# Altium schematic symbol library 96BoardsComputeSoM.SchLib: 2 symbols
Pins are listed as number, name and electrical type; pins without a type are passive.

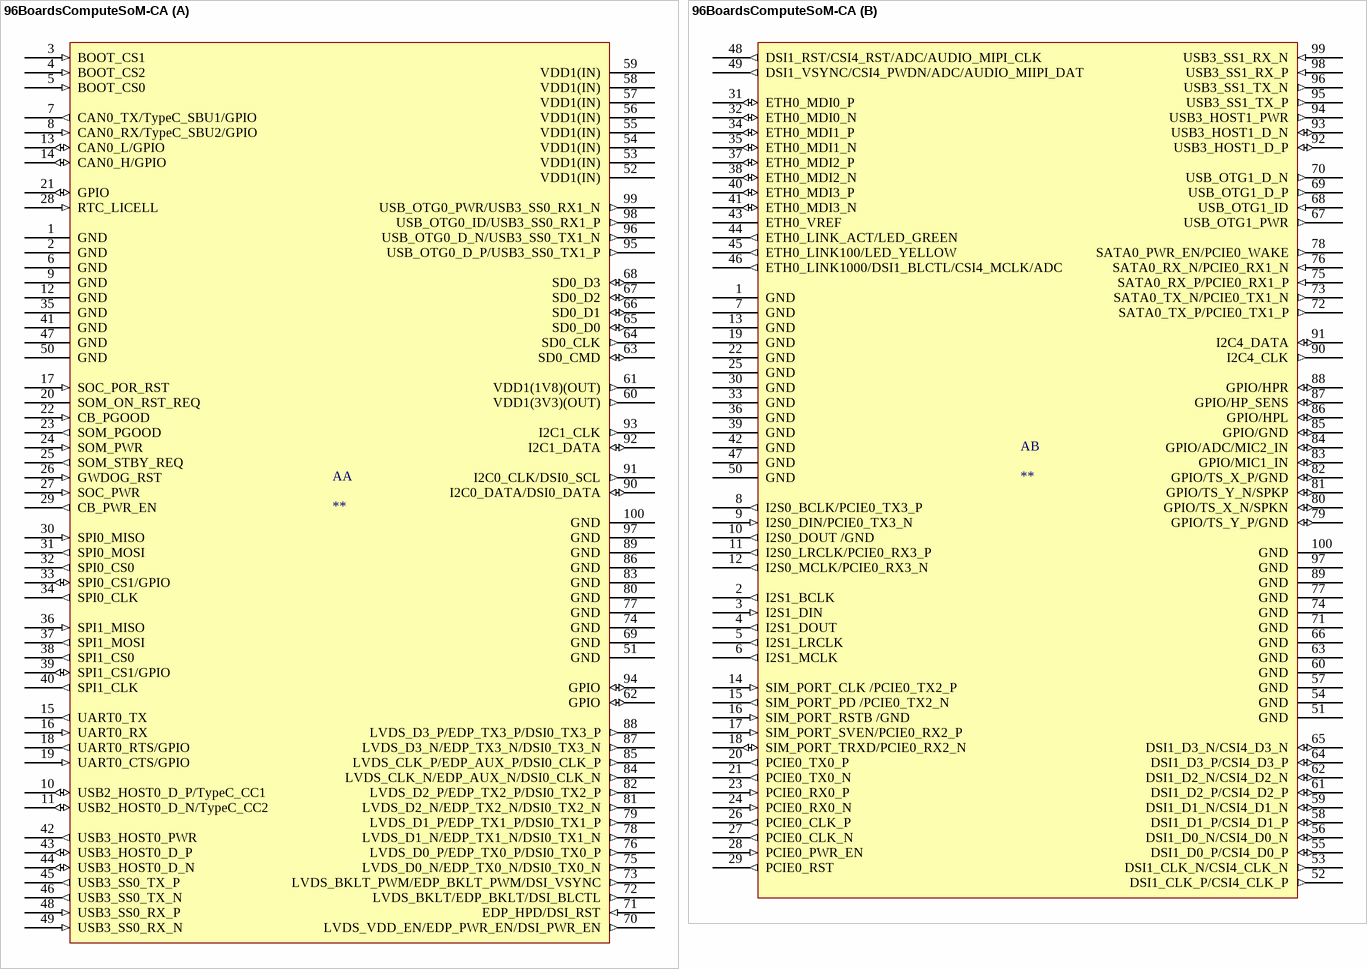
[diagram p0: symbol 96BoardsComputeSoM-CA]

## 96BoardsComputeSoM-CA
designator A, comment **
Linaro 96Boards Compute Module SOM v1.0 4-Connector A-Variant as found specified in http://static.linaro.org/assets/specifications/96BoardsComputeSoMSpecificationV1.0.pdf
part A pins: 1 GND (power), 2 GND (power), 3 BOOT_CS1 (in), 4 BOOT_CS2 (in), 5 BOOT_CS0 (in), 6 GND (power), 7 CAN0_TX/TypeC_SBU1/GPIO (out), 8 CAN0_RX/TypeC_SBU2/GPIO (in), 9 GND (power), 10 USB2_HOST0_D_P/TypeC_CC1 (io), 11 USB2_HOST0_D_N/TypeC_CC2 (io), 12 GND (power), 13 CAN0_L/GPIO (io), 14 CAN0_H/GPIO (io), 15 UART0_TX (out), 16 UART0_RX (in), 17 SOC_POR_RST (in), 18 UART0_RTS/GPIO (out), 19 UART0_CTS/GPIO (in), 20 SOM_ON_RST_REQ, 21 GPIO (io), 22 CB_PGOOD (in), 23 SOM_PGOOD (out), 24 SOM_PWR (in), 25 SOM_STBY_REQ (out), 26 GWDOG_RST (in), 27 SOC_PWR (in), 28 RTC_LICELL (in), 29 CB_PWR_EN (out), 30 SPI0_MISO (in), 31 SPI0_MOSI (out), 32 SPI0_CS0 (out), 33 SPI0_CS1/GPIO (io), 34 SPI0_CLK (out), 35 GND (power), 36 SPI1_MISO (in), 37 SPI1_MOSI (out), 38 SPI1_CS0 (out), 39 SPI1_CS1/GPIO (io), 40 SPI1_CLK (out), 41 GND (power), 42 USB3_HOST0_PWR (out), 43 USB3_HOST0_D_P (io), 44 USB3_HOST0_D_N (io), 45 USB3_SS0_TX_P (out), 46 USB3_SS0_TX_N (out), 47 GND (power), 48 USB3_SS0_RX_P (in), 49 USB3_SS0_RX_N (in), 50 GND (power), 51 GND (power), 52 VDD1(IN) (power), 53 VDD1(IN) (power), 54 VDD1(IN) (power), 55 VDD1(IN) (power), 56 VDD1(IN) (power), 57 VDD1(IN) (power), 58 VDD1(IN) (power), 59 VDD1(IN) (power), 60 VDD1(3V3)(OUT) (out), 61 VDD1(1V8)(OUT) (out), 62 GPIO (io), 63 SD0_CMD (io), 64 SD0_CLK (out), 65 SD0_D0 (io), 66 SD0_D1 (io), 67 SD0_D2 (io), 68 SD0_D3 (io), 69 GND (power), 70 LVDS_VDD_EN/EDP_PWR_EN/DSI_PWR_EN (out), 71 EDP_HPD/DSI_RST (in), 72 LVDS_BKLT/EDP_BKLT/DSI_BLCTL (out), 73 LVDS_BKLT_PWM/EDP_BKLT_PWM/DSI_VSYNC (out), 74 GND (power), 75 LVDS_D0_N/EDP_TX0_N/DSI0_TX0_N (out), 76 LVDS_D0_P/EDP_TX0_P/DSI0_TX0_P (out), 77 GND (power), 78 LVDS_D1_N/EDP_TX1_N/DSI0_TX1_N (out), 79 LVDS_D1_P/EDP_TX1_P/DSI0_TX1_P (out), 80 GND (power), 81 LVDS_D2_N/EDP_TX2_N/DSI0_TX2_N (out), 82 LVDS_D2_P/EDP_TX2_P/DSI0_TX2_P (out), 83 GND (power), 84 LVDS_CLK_N/EDP_AUX_N/DSI0_CLK_N (out), 85 LVDS_CLK_P/EDP_AUX_P/DSI0_CLK_P (out), 86 GND (power), 87 LVDS_D3_N/EDP_TX3_N/DSI0_TX3_N (out), 88 LVDS_D3_P/EDP_TX3_P/DSI0_TX3_P (out), 89 GND (power), 90 I2C0_DATA/DSI0_DATA (io), 91 I2C0_CLK/DSI0_SCL (out), 92 I2C1_DATA (io), 93 I2C1_CLK (out), 94 GPIO (io), 95 USB_OTG0_D_P/USB3_SS0_TX1_P (out), 96 USB_OTG0_D_N/USB3_SS0_TX1_N (out), 97 GND (power), 98 USB_OTG0_ID/USB3_SS0_RX1_P (out), 99 USB_OTG0_PWR/USB3_SS0_RX1_N (out), 100 GND (power)
part B pins: 1 GND (power), 2 I2S1_BCLK (out), 3 I2S1_DIN (in), 4 I2S1_DOUT (out), 5 I2S1_LRCLK (out), 6 I2S1_MCLK (out), 7 GND (power), 8 I2S0_BCLK/PCIE0_TX3_P (out), 9 I2S0_DIN/PCIE0_TX3_N (in), 10 I2S0_DOUT /GND (out), 11 I2S0_LRCLK/PCIE0_RX3_P (out), 12 I2S0_MCLK/PCIE0_RX3_N (out), 13 GND (power), 14 SIM_PORT_CLK /PCIE0_TX2_P (in), 15 SIM_PORT_PD /PCIE0_TX2_N (out), 16 SIM_PORT_RSTB /GND (in), 17 SIM_PORT_SVEN/PCIE0_RX2_P (in), 18 SIM_PORT_TRXD/PCIE0_RX2_N (io), 19 GND (power), 20 PCIE0_TX0_P (out), 21 PCIE0_TX0_N (out), 22 GND (power), 23 PCIE0_RX0_P (in), 24 PCIE0_RX0_N (in), 25 GND (power), 26 PCIE0_CLK_P (out), 27 PCIE0_CLK_N (out), 28 PCIE0_PWR_EN (in), 29 PCIE0_RST (out), 30 GND (power), 31 ETH0_MDI0_P (io), 32 ETH0_MDI0_N (io), 33 GND (power), 34 ETH0_MDI1_P (io), 35 ETH0_MDI1_N (io), 36 GND (power), 37 ETH0_MDI2_P (io), 38 ETH0_MDI2_N (io), 39 GND (power), 40 ETH0_MDI3_P (io), 41 ETH0_MDI3_N (io), 42 GND (power), 43 ETH0_VREF, 44 ETH0_LINK_ACT/LED_GREEN (out), 45 ETH0_LINK100/LED_YELLOW (out), 46 ETH0_LINK1000/DSI1_BLCTL/CSI4_MCLK/ADC (out), 47 GND (power), 48 DSI1_RST/CSI4_RST/ADC/AUDIO_MIPI_CLK (out), 49 DSI1_VSYNC/CSI4_PWDN/ADC/AUDIO_MIIPI_DAT (out), 50 GND (power), 51 GND (power), 52 DSI1_CLK_P/CSI4_CLK_P (out), 53 DSI1_CLK_N/CSI4_CLK_N (out), 54 GND (power), 55 DSI1_D0_P/CSI4_D0_P (io), 56 DSI1_D0_N/CSI4_D0_N (io), 57 GND (power), 58 DSI1_D1_P/CSI4_D1_P (io), 59 DSI1_D1_N/CSI4_D1_N (io), 60 GND (power), 61 DSI1_D2_P/CSI4_D2_P (io), 62 DSI1_D2_N/CSI4_D2_N (io), 63 GND (power), 64 DSI1_D3_P/CSI4_D3_P (io), 65 DSI1_D3_N/CSI4_D3_N (io), 66 GND (power), 67 USB_OTG1_PWR (out), 68 USB_OTG1_ID (in), 69 USB_OTG1_D_P (out), 70 USB_OTG1_D_N (out), 71 GND (power), 72 SATA0_TX_P/PCIE0_TX1_P (out), 73 SATA0_TX_N/PCIE0_TX1_N (out), 74 GND (power), 75 SATA0_RX_P/PCIE0_RX1_P (in), 76 SATA0_RX_N/PCIE0_RX1_N (in), 77 GND (power), 78 SATA0_PWR_EN/PCIE0_WAKE (out), 79 GPIO/TS_Y_P/GND (io), 80 GPIO/TS_X_N/SPKN (io), 81 GPIO/TS_Y_N/SPKP (io), 82 GPIO/TS_X_P/GND (io), 83 GPIO/MIC1_IN (io), 84 GPIO/ADC/MIC2_IN (io), 85 GPIO/GND (io), 86 GPIO/HPL (io), 87 GPIO/HP_SENS (io), 88 GPIO/HPR (io), 89 GND (power), 90 I2C4_CLK (out), 91 I2C4_DATA (io), 92 USB3_HOST1_D_P (io), 93 USB3_HOST1_D_N (io), 94 USB3_HOST1_PWR (out), 95 USB3_SS1_TX_P (out), 96 USB3_SS1_TX_N (out), 97 GND (power), 98 USB3_SS1_RX_P (in), 99 USB3_SS1_RX_N (in), 100 GND (power)

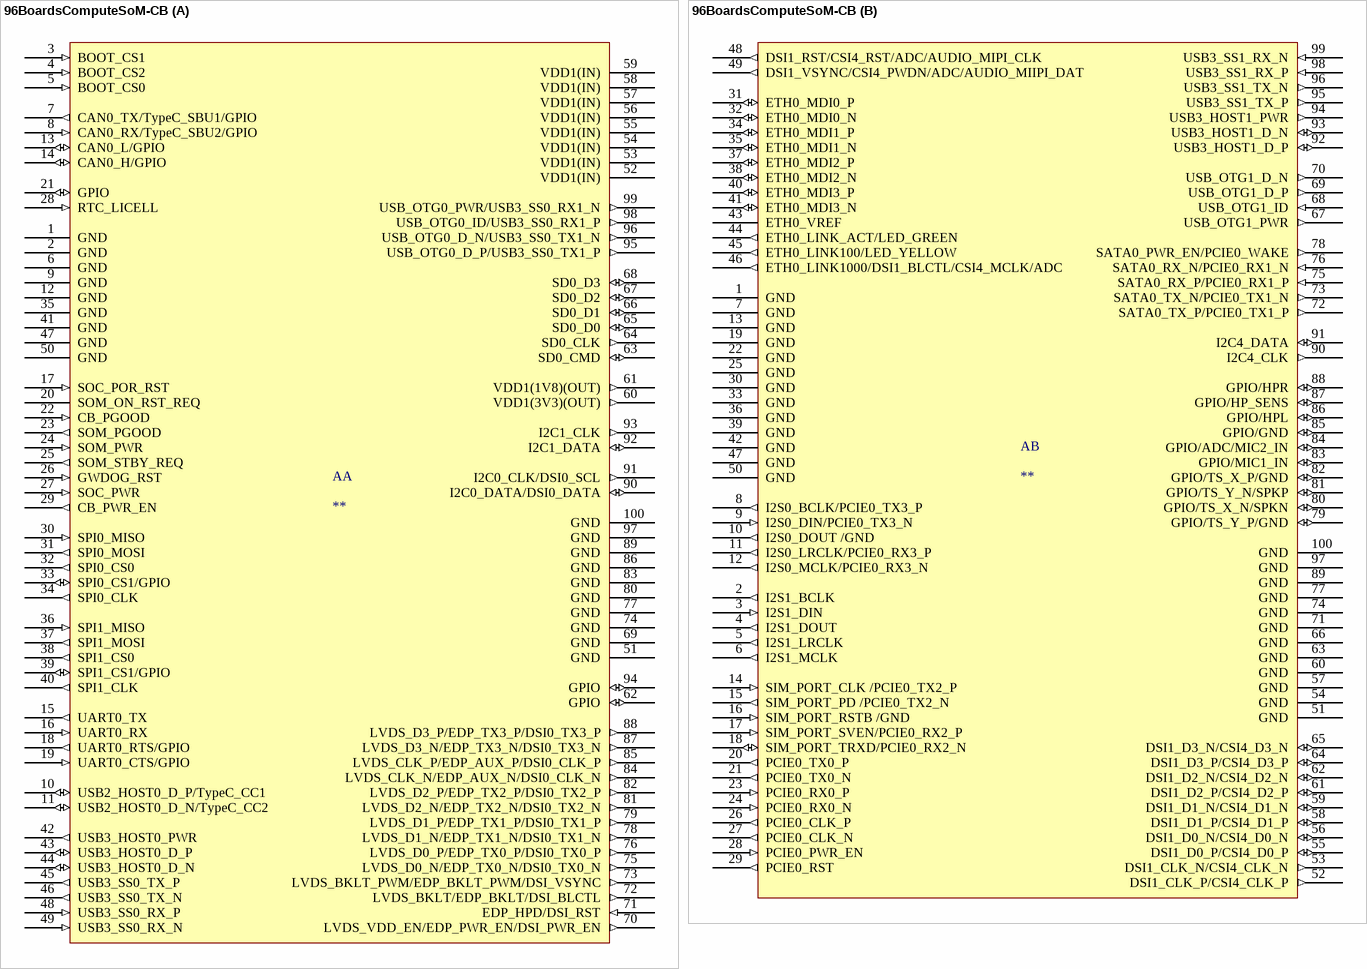
[diagram p1: symbol 96BoardsComputeSoM-CB]

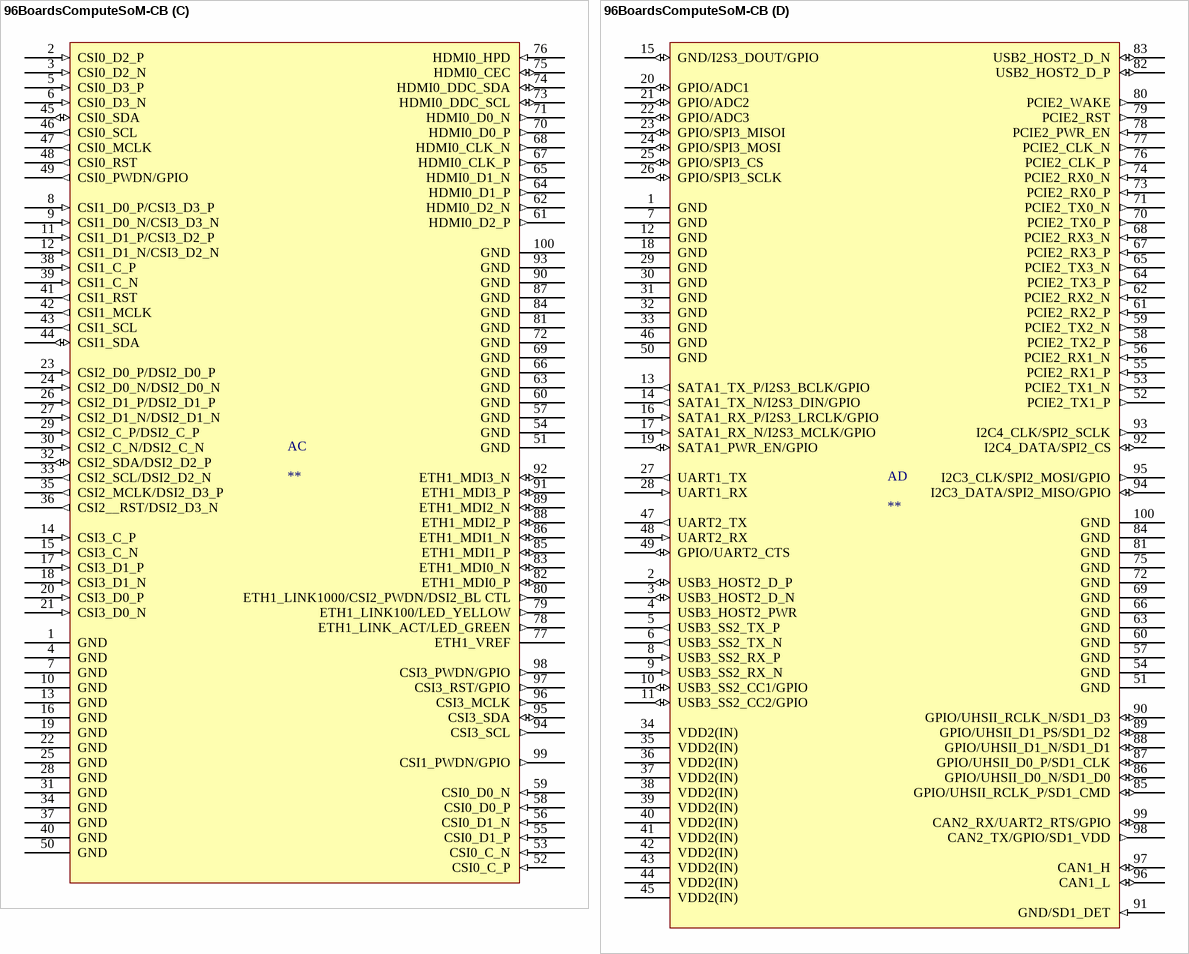
[diagram p2: symbol 96BoardsComputeSoM-CB]

## 96BoardsComputeSoM-CB
designator A, comment **
Linaro 96Boards Compute Module SOM v1.0 4-Connector B-Variant as found specified in http://static.linaro.org/assets/specifications/96BoardsComputeSoMSpecificationV1.0.pdf
part A pins: 1 GND (power), 2 GND (power), 3 BOOT_CS1 (in), 4 BOOT_CS2 (in), 5 BOOT_CS0 (in), 6 GND (power), 7 CAN0_TX/TypeC_SBU1/GPIO (out), 8 CAN0_RX/TypeC_SBU2/GPIO (in), 9 GND (power), 10 USB2_HOST0_D_P/TypeC_CC1 (io), 11 USB2_HOST0_D_N/TypeC_CC2 (io), 12 GND (power), 13 CAN0_L/GPIO (io), 14 CAN0_H/GPIO (io), 15 UART0_TX (out), 16 UART0_RX (in), 17 SOC_POR_RST (in), 18 UART0_RTS/GPIO (out), 19 UART0_CTS/GPIO (in), 20 SOM_ON_RST_REQ, 21 GPIO (io), 22 CB_PGOOD (in), 23 SOM_PGOOD (out), 24 SOM_PWR (in), 25 SOM_STBY_REQ (out), 26 GWDOG_RST (in), 27 SOC_PWR (in), 28 RTC_LICELL (in), 29 CB_PWR_EN (out), 30 SPI0_MISO (in), 31 SPI0_MOSI (out), 32 SPI0_CS0 (out), 33 SPI0_CS1/GPIO (io), 34 SPI0_CLK (out), 35 GND (power), 36 SPI1_MISO (in), 37 SPI1_MOSI (out), 38 SPI1_CS0 (out), 39 SPI1_CS1/GPIO (io), 40 SPI1_CLK (out), 41 GND (power), 42 USB3_HOST0_PWR (out), 43 USB3_HOST0_D_P (io), 44 USB3_HOST0_D_N (io), 45 USB3_SS0_TX_P (out), 46 USB3_SS0_TX_N (out), 47 GND (power), 48 USB3_SS0_RX_P (in), 49 USB3_SS0_RX_N (in), 50 GND (power), 51 GND (power), 52 VDD1(IN) (power), 53 VDD1(IN) (power), 54 VDD1(IN) (power), 55 VDD1(IN) (power), 56 VDD1(IN) (power), 57 VDD1(IN) (power), 58 VDD1(IN) (power), 59 VDD1(IN) (power), 60 VDD1(3V3)(OUT) (out), 61 VDD1(1V8)(OUT) (out), 62 GPIO (io), 63 SD0_CMD (io), 64 SD0_CLK (out), 65 SD0_D0 (io), 66 SD0_D1 (io), 67 SD0_D2 (io), 68 SD0_D3 (io), 69 GND (power), 70 LVDS_VDD_EN/EDP_PWR_EN/DSI_PWR_EN (out), 71 EDP_HPD/DSI_RST (in), 72 LVDS_BKLT/EDP_BKLT/DSI_BLCTL (out), 73 LVDS_BKLT_PWM/EDP_BKLT_PWM/DSI_VSYNC (out), 74 GND (power), 75 LVDS_D0_N/EDP_TX0_N/DSI0_TX0_N (out), 76 LVDS_D0_P/EDP_TX0_P/DSI0_TX0_P (out), 77 GND (power), 78 LVDS_D1_N/EDP_TX1_N/DSI0_TX1_N (out), 79 LVDS_D1_P/EDP_TX1_P/DSI0_TX1_P (out), 80 GND (power), 81 LVDS_D2_N/EDP_TX2_N/DSI0_TX2_N (out), 82 LVDS_D2_P/EDP_TX2_P/DSI0_TX2_P (out), 83 GND (power), 84 LVDS_CLK_N/EDP_AUX_N/DSI0_CLK_N (out), 85 LVDS_CLK_P/EDP_AUX_P/DSI0_CLK_P (out), 86 GND (power), 87 LVDS_D3_N/EDP_TX3_N/DSI0_TX3_N (out), 88 LVDS_D3_P/EDP_TX3_P/DSI0_TX3_P (out), 89 GND (power), 90 I2C0_DATA/DSI0_DATA (io), 91 I2C0_CLK/DSI0_SCL (out), 92 I2C1_DATA (io), 93 I2C1_CLK (out), 94 GPIO (io), 95 USB_OTG0_D_P/USB3_SS0_TX1_P (out), 96 USB_OTG0_D_N/USB3_SS0_TX1_N (out), 97 GND (power), 98 USB_OTG0_ID/USB3_SS0_RX1_P (out), 99 USB_OTG0_PWR/USB3_SS0_RX1_N (out), 100 GND (power)
part B pins: 1 GND (power), 2 I2S1_BCLK (out), 3 I2S1_DIN (in), 4 I2S1_DOUT (out), 5 I2S1_LRCLK (out), 6 I2S1_MCLK (out), 7 GND (power), 8 I2S0_BCLK/PCIE0_TX3_P (out), 9 I2S0_DIN/PCIE0_TX3_N (in), 10 I2S0_DOUT /GND (out), 11 I2S0_LRCLK/PCIE0_RX3_P (out), 12 I2S0_MCLK/PCIE0_RX3_N (out), 13 GND (power), 14 SIM_PORT_CLK /PCIE0_TX2_P (in), 15 SIM_PORT_PD /PCIE0_TX2_N (out), 16 SIM_PORT_RSTB /GND (in), 17 SIM_PORT_SVEN/PCIE0_RX2_P (in), 18 SIM_PORT_TRXD/PCIE0_RX2_N (io), 19 GND (power), 20 PCIE0_TX0_P (out), 21 PCIE0_TX0_N (out), 22 GND (power), 23 PCIE0_RX0_P (in), 24 PCIE0_RX0_N (in), 25 GND (power), 26 PCIE0_CLK_P (out), 27 PCIE0_CLK_N (out), 28 PCIE0_PWR_EN (in), 29 PCIE0_RST (out), 30 GND (power), 31 ETH0_MDI0_P (io), 32 ETH0_MDI0_N (io), 33 GND (power), 34 ETH0_MDI1_P (io), 35 ETH0_MDI1_N (io), 36 GND (power), 37 ETH0_MDI2_P (io), 38 ETH0_MDI2_N (io), 39 GND (power), 40 ETH0_MDI3_P (io), 41 ETH0_MDI3_N (io), 42 GND (power), 43 ETH0_VREF, 44 ETH0_LINK_ACT/LED_GREEN (out), 45 ETH0_LINK100/LED_YELLOW (out), 46 ETH0_LINK1000/DSI1_BLCTL/CSI4_MCLK/ADC (out), 47 GND (power), 48 DSI1_RST/CSI4_RST/ADC/AUDIO_MIPI_CLK (out), 49 DSI1_VSYNC/CSI4_PWDN/ADC/AUDIO_MIIPI_DAT (out), 50 GND (power), 51 GND (power), 52 DSI1_CLK_P/CSI4_CLK_P (out), 53 DSI1_CLK_N/CSI4_CLK_N (out), 54 GND (power), 55 DSI1_D0_P/CSI4_D0_P (io), 56 DSI1_D0_N/CSI4_D0_N (io), 57 GND (power), 58 DSI1_D1_P/CSI4_D1_P (io), 59 DSI1_D1_N/CSI4_D1_N (io), 60 GND (power), 61 DSI1_D2_P/CSI4_D2_P (io), 62 DSI1_D2_N/CSI4_D2_N (io), 63 GND (power), 64 DSI1_D3_P/CSI4_D3_P (io), 65 DSI1_D3_N/CSI4_D3_N (io), 66 GND (power), 67 USB_OTG1_PWR (out), 68 USB_OTG1_ID (in), 69 USB_OTG1_D_P (out), 70 USB_OTG1_D_N (out), 71 GND (power), 72 SATA0_TX_P/PCIE0_TX1_P (out), 73 SATA0_TX_N/PCIE0_TX1_N (out), 74 GND (power), 75 SATA0_RX_P/PCIE0_RX1_P (in), 76 SATA0_RX_N/PCIE0_RX1_N (in), 77 GND (power), 78 SATA0_PWR_EN/PCIE0_WAKE (out), 79 GPIO/TS_Y_P/GND (io), 80 GPIO/TS_X_N/SPKN (io), 81 GPIO/TS_Y_N/SPKP (io), 82 GPIO/TS_X_P/GND (io), 83 GPIO/MIC1_IN (io), 84 GPIO/ADC/MIC2_IN (io), 85 GPIO/GND (io), 86 GPIO/HPL (io), 87 GPIO/HP_SENS (io), 88 GPIO/HPR (io), 89 GND (power), 90 I2C4_CLK (out), 91 I2C4_DATA (io), 92 USB3_HOST1_D_P (io), 93 USB3_HOST1_D_N (io), 94 USB3_HOST1_PWR (out), 95 USB3_SS1_TX_P (out), 96 USB3_SS1_TX_N (out), 97 GND (power), 98 USB3_SS1_RX_P (in), 99 USB3_SS1_RX_N (in), 100 GND (power)
part C pins: 1 GND (power), 2 CSI0_D2_P (in), 3 CSI0_D2_N (in), 4 GND (power), 5 CSI0_D3_P (in), 6 CSI0_D3_N (in), 7 GND (power), 8 CSI1_D0_P/CSI3_D3_P (in), 9 CSI1_D0_N/CSI3_D3_N (in), 10 GND (power), 11 CSI1_D1_P/CSI3_D2_P (in), 12 CSI1_D1_N/CSI3_D2_N (in), 13 GND (power), 14 CSI3_C_P (in), 15 CSI3_C_N (in), 16 GND (power), 17 CSI3_D1_P (in), 18 CSI3_D1_N (in), 19 GND (power), 20 CSI3_D0_P (in), 21 CSI3_D0_N (in), 22 GND (power), 23 CSI2_D0_P/DSI2_D0_P (in), 24 CSI2_D0_N/DSI2_D0_N (in), 25 GND (power), 26 CSI2_D1_P/DSI2_D1_P (in), 27 CSI2_D1_N/DSI2_D1_N (in), 28 GND (power), 29 CSI2_C_P/DSI2_C_P (in), 30 CSI2_C_N/DSI2_C_N (in), 31 GND (power), 32 CSI2_SDA/DSI2_D2_P (io), 33 CSI2_SCL/DSI2_D2_N (out), 34 GND (power), 35 CSI2_MCLK/DSI2_D3_P (out), 36 CSI2__RST/DSI2_D3_N (out), 37 GND (power), 38 CSI1_C_P (in), 39 CSI1_C_N (in), 40 GND (power), 41 CSI1_RST (out), 42 CSI1_MCLK (out), 43 CSI1_SCL (out), 44 CSI1_SDA (io), 45 CSI0_SDA (io), 46 CSI0_SCL (out), 47 CSI0_MCLK (out), 48 CSI0_RST (out), 49 CSI0_PWDN/GPIO (out), 50 GND (power), 51 GND (power), 52 CSI0_C_P (in), 53 CSI0_C_N (in), 54 GND (power), 55 CSI0_D1_P (in), 56 CSI0_D1_N (in), 57 GND (power), 58 CSI0_D0_P (in), 59 CSI0_D0_N (in), 60 GND (power), 61 HDMI0_D2_P (out), 62 HDMI0_D2_N (out), 63 GND (power), 64 HDMI0_D1_P (out), 65 HDMI0_D1_N (out), 66 GND (power), 67 HDMI0_CLK_P (out), 68 HDMI0_CLK_N (out), 69 GND (power), 70 HDMI0_D0_P (out), 71 HDMI0_D0_N (out), 72 GND (power), 73 HDMI0_DDC_SCL (io), 74 HDMI0_DDC_SDA (io), 75 HDMI0_CEC (io), 76 HDMI0_HPD (in), 77 ETH1_VREF, 78 ETH1_LINK_ACT/LED_GREEN (out), 79 ETH1_LINK100/LED_YELLOW (out), 80 ETH1_LINK1000/CSI2_PWDN/DSI2_BL CTL (out), 81 GND (power), 82 ETH1_MDI0_P (io), 83 ETH1_MDI0_N (io), 84 GND (power), 85 ETH1_MDI1_P (io), 86 ETH1_MDI1_N (io), 87 GND (power), 88 ETH1_MDI2_P (io), 89 ETH1_MDI2_N (io), 90 GND (power), 91 ETH1_MDI3_P (io), 92 ETH1_MDI3_N (io), 93 GND (power), 94 CSI3_SCL (out), 95 CSI3_SDA (io), 96 CSI3_MCLK (out), 97 CSI3_RST/GPIO (out), 98 CSI3_PWDN/GPIO (out), 99 CSI1_PWDN/GPIO (out), 100 GND (power)
part D pins: 1 GND (power), 2 USB3_HOST2_D_P (io), 3 USB3_HOST2_D_N (io), 4 USB3_HOST2_PWR (power), 5 USB3_SS2_TX_P (out), 6 USB3_SS2_TX_N (out), 7 GND (power), 8 USB3_SS2_RX_P (in), 9 USB3_SS2_RX_N (in), 10 USB3_SS2_CC1/GPIO (io), 11 USB3_SS2_CC2/GPIO (io), 12 GND (power), 13 SATA1_TX_P/I2S3_BCLK/GPIO (out), 14 SATA1_TX_N/I2S3_DIN/GPIO (out), 15 GND/I2S3_DOUT/GPIO (io), 16 SATA1_RX_P/I2S3_LRCLK/GPIO (in), 17 SATA1_RX_N/I2S3_MCLK/GPIO (in), 18 GND (power), 19 SATA1_PWR_EN/GPIO (io), 20 GPIO/ADC1 (io), 21 GPIO/ADC2 (io), 22 GPIO/ADC3 (io), 23 GPIO/SPI3_MISOI (io), 24 GPIO/SPI3_MOSI (io), 25 GPIO/SPI3_CS (io), 26 GPIO/SPI3_SCLK (io), 27 UART1_TX (out), 28 UART1_RX (in), 29 GND (power), 30 GND (power), 31 GND (power), 32 GND (power), 33 GND (power), 34 VDD2(IN) (power), 35 VDD2(IN) (power), 36 VDD2(IN) (power), 37 VDD2(IN) (power), 38 VDD2(IN) (power), 39 VDD2(IN) (power), 40 VDD2(IN) (power), 41 VDD2(IN) (power), 42 VDD2(IN) (power), 43 VDD2(IN) (power), 44 VDD2(IN) (power), 45 VDD2(IN) (power), 46 GND (power), 47 UART2_TX (out), 48 UART2_RX (in), 49 GPIO/UART2_CTS (io), 50 GND (power), 51 GND (power), 52 PCIE2_TX1_P (out), 53 PCIE2_TX1_N (out), 54 GND (power), 55 PCIE2_RX1_P (in), 56 PCIE2_RX1_N (in), 57 GND (power), 58 PCIE2_TX2_P (out), 59 PCIE2_TX2_N (out), 60 GND (power), 61 PCIE2_RX2_P (in), 62 PCIE2_RX2_N (in), 63 GND (power), 64 PCIE2_TX3_P (out), 65 PCIE2_TX3_N (out), 66 GND (power), 67 PCIE2_RX3_P (in), 68 PCIE2_RX3_N (in), 69 GND (power), 70 PCIE2_TX0_P (out), 71 PCIE2_TX0_N (out), 72 GND (power), 73 PCIE2_RX0_P (in), 74 PCIE2_RX0_N (in), 75 GND (power), 76 PCIE2_CLK_P (out), 77 PCIE2_CLK_N (out), 78 PCIE2_PWR_EN (in), 79 PCIE2_RST (out), 80 PCIE2_WAKE (out), 81 GND (power), 82 USB2_HOST2_D_P (io), 83 USB2_HOST2_D_N (io), 84 GND (power), 85 GPIO/UHSII_RCLK_P/SD1_CMD (io), 86 GPIO/UHSII_D0_N/SD1_D0 (io), 87 GPIO/UHSII_D0_P/SD1_CLK (io), 88 GPIO/UHSII_D1_N/SD1_D1 (io), 89 GPIO/UHSII_D1_PS/SD1_D2 (io), 90 GPIO/UHSII_RCLK_N/SD1_D3 (io), 91 GND/SD1_DET (in), 92 I2C4_DATA/SPI2_CS (io), 93 I2C4_CLK/SPI2_SCLK (out), 94 I2C3_DATA/SPI2_MISO/GPIO (io), 95 I2C3_CLK/SPI2_MOSI/GPIO (out), 96 CAN1_L (io), 97 CAN1_H (io), 98 CAN2_TX/GPIO/SD1_VDD (out), 99 CAN2_RX/UART2_RTS/GPIO (io), 100 GND (power)